# EAGLE library part PIC18F2550 (library custom)
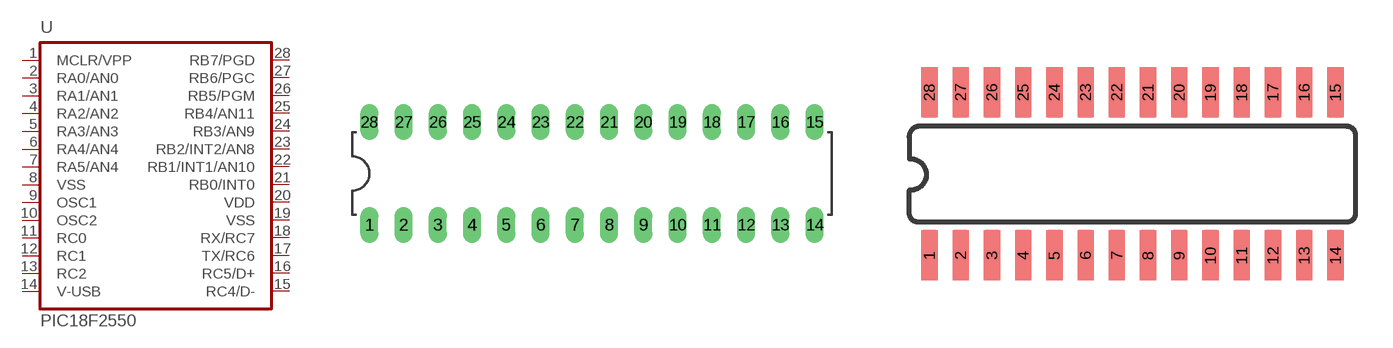
[diagram p1: symbol with the pads of DIL28-3; footprints DIL28-3, SOIC-28]

Designator prefix -

## PIC18F2550  [DIL28-3]
1  MCLR/VPP
2  RA0/AN0
3  RA1/AN1
4  RA2/AN2
5  RA3/AN3
6  RA4/AN4
7  RA5/AN4
8  VSS  pwr
9  OSC1
10  OSC2
11  RC0
12  RC1
13  RC2
14  V-USB
15  RC4/D-
16  RC5/D+
17  TX/RC6
18  RX/RC7  in
19  VSS  pwr
20  VDD  pwr
21  RB0/INT0
22  RB1/INT1/AN10
23  RB2/INT2/AN8
24  RB3/AN9
25  RB4/AN11
26  RB5/PGM
27  RB6/PGC
28  RB7/PGD

## PIC18F2550SOIC-28  [SOIC-28]
Pads as for DIL28-3

## Footprint DIL28-3 (pad centres in mm)
drill 0.813 long: 1 -16.51,-3.81; 2 -13.97,-3.81; 3 -11.43,-3.81; 4 -8.89,-3.81; 5 -6.35,-3.81; 6 -3.81,-3.81; 7 -1.27,-3.81; 8 1.27,-3.81; 9 3.81,-3.81; 10 6.35,-3.81; 11 8.89,-3.81; 12 11.43,-3.81; 13 13.97,-3.81; 14 16.51,-3.81; 15 16.51,3.81; 16 13.97,3.81; 17 11.43,3.81; 18 8.89,3.81; 19 6.35,3.81; 20 3.81,3.81; 21 1.27,3.81; 22 -1.27,3.81; 23 -3.81,3.81; 24 -6.35,3.81; 25 -8.89,3.81; 26 -11.43,3.81; 27 -13.97,3.81; 28 -16.51,3.81

## Footprint SOIC-28 (pad centres in mm)
smd 0.66 x 2.032: 1 -0.065,1.795; 2 1.205,1.795; 3 2.475,1.795; 4 3.745,1.795; 5 5.015,1.795; 6 6.285,1.795; 7 7.555,1.795; 8 8.825,1.795; 9 10.095,1.795; 10 11.365,1.795; 11 12.635,1.795; 12 13.905,1.795; 13 15.175,1.795; 14 16.445,1.795; 15 16.445,8.425; 16 15.175,8.425; 17 13.905,8.425; 18 12.635,8.425; 19 11.365,8.425; 20 10.095,8.425; 21 8.825,8.425; 22 7.555,8.425; 23 6.285,8.425; 24 5.015,8.425; 25 3.745,8.425; 26 2.475,8.425; 27 1.205,8.425; 28 -0.065,8.425